# Altium footprint library LITE-ON_LTST-C190KGKT.PcbLib: 1 footprints
Each footprint in its own frame and in the unit in brackets; x right, y up, seen from the top. Pads: shape width x height; smd on the part's side, far side on the other; paste and mask are expansions set on the pad; w line width, h text height; cw(c..) or ccw(c..) is an arc to the next point about the centre after c.
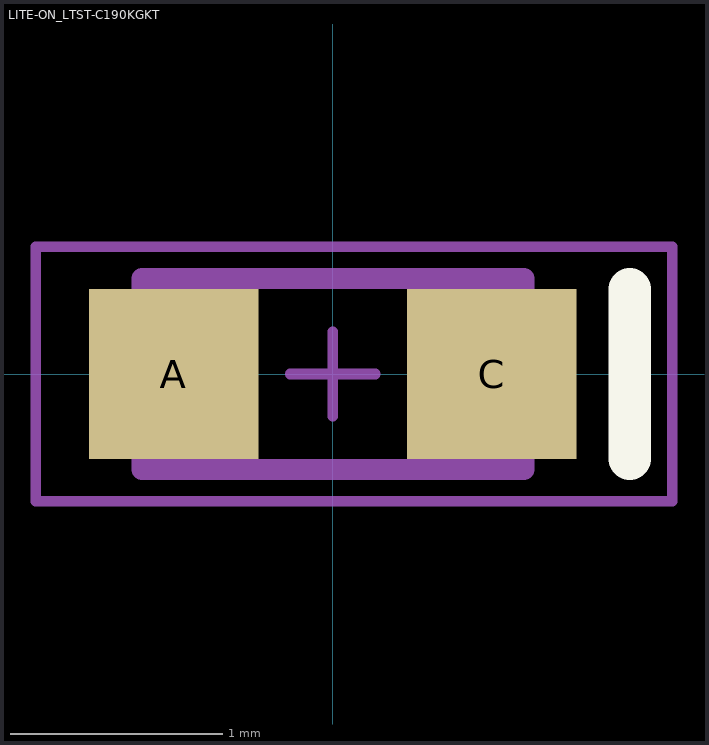
[diagram p0: the footprint, top view; thin cyan lines are the x and y axes]

## LITE-ON_LTST-C190KGKT [mm] "LITE-ON_LTST-C190KGKT"
height 0.9
pads (2):
  rect 0.8x0.8 smd: A(-0.75,0) C(0.75,0)
Top Overlay:
  lines w0.2: 1.4,-0.4 1.4,0.4
Mechanical 13:
  lines w0.1: -0.9,-0.45 -0.9,0.45 0.9,0.45 0.9,-0.45 -0.9,-0.45
Mechanical 15:
  lines w0.05: -0.2,0 0.2,0 ; 0,-0.2 0,0.2 ; -1.4,-0.6 1.6,-0.6 1.6,0.6 -1.4,0.6 -1.4,-0.6
3D body "LITE_ON_LTST-C190KGKT.step": height 0.8, standoff 0, extent -0.8,-0.4 0.8,0.4